# Altium schematic symbol library P_HEADER_2x2.Schlib: 1 symbol
Pins are listed as number, name and electrical type; pins without a type are passive.

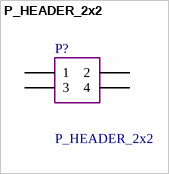
[diagram p0: symbol P_HEADER_2x2]

## P_HEADER_2x2
designator P?
pins: 1, 2, 3, 4